# Altium schematic symbol library TPS62361BYZHR.SchLib: 2 symbols
Pins are listed as number, name and electrical type; pins without a type are passive.

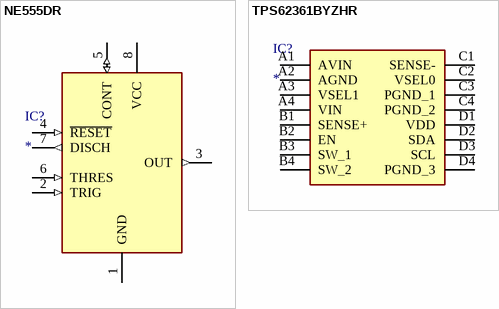
[diagram p0: symbols NE555DR to TPS62361BYZHR]

## NE555DR
designator IC?
Integrated Circuit; Manufacturer_Name: Texas Instruments; Manufacturer_Part_Number: NE555DR; Datasheet Link: http://www.ti.com/lit/ds/symlink/ne555.pdf; Height: 1.75mm; Mouser Part Number: 595-NE555DR; Mouser Price/Stock: https://www.mouser.com/Search/Refine.aspx?Keyword=595-NE555DR; RS Part Number: 1218414; RS Price/Stock: http://uk.rs-online.com/web/p/products/1218414
footprint BGA16C50P4X4_206X206X62
pins: 1 GND (power), 2 TRIG (in), 3 OUT (out), 4 ~{RESET} (in), 5 CONT (io), 6 THRES (in), 7 DISCH (out), 8 VCC (power)

## TPS62361BYZHR
designator IC?
Integrated Circuit; Manufacturer_Name: Texas Instruments; Manufacturer_Part_Number: TPS62361BYZHR; Datasheet Link: http://www.ti.com/lit/gpn/tps62361b; Height: 0.625mm
footprint BGA16C50P4X4_206X206X62
pins: A1 AVIN, A2 AGND, A3 VSEL1, A4 VIN, B1 SENSE+, B2 EN, B3 SW_1, B4 SW_2, C1 SENSE-, C2 VSEL0, C3 PGND_1, C4 PGND_2, D1 VDD, D2 SDA, D3 SCL, D4 PGND_3